# Altium schematic symbol library IC-PMIC.SchLib: 13 symbols
Pins are listed as number, name and electrical type; pins without a type are passive.

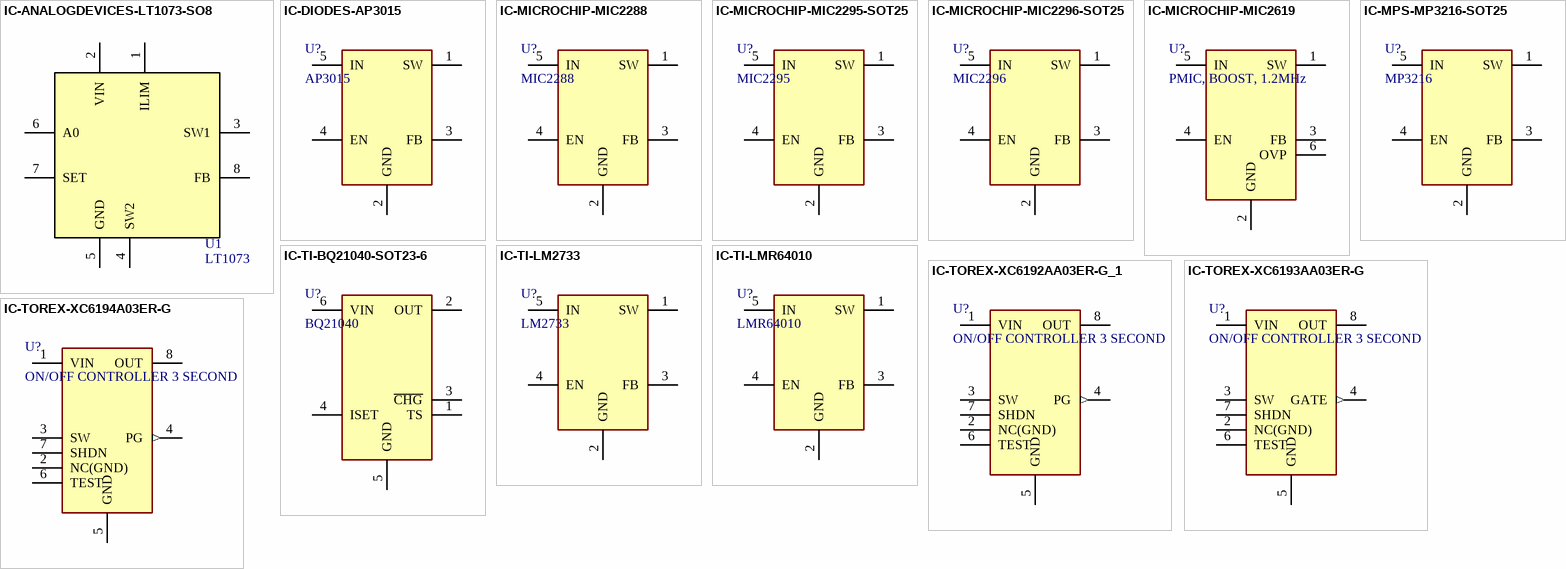
[diagram p0: symbols IC-ANALOGDEVICES-LT1073-SO8 to IC-TOREX-XC6194A03ER-G]

## IC-ANALOGDEVICES-LT1073-SO8
designator U1, comment LT1073
PMIC,SWITCHING REGULATOR,ADJUSTABLE LT1073,SO8; Supplier 1: Digikey; Supplier Part Number 1: LT1073CS8#TRPBF-ND; Supplier 2: Mouser; Supplier Part Number 2: 584-LT1073CS8#PBF
footprint SO8
pins: 1 ILIM, 2 VIN, 3 SW1, 4 SW2, 5 GND, 6 A0, 7 SET, 8 FB

## IC-DIODES-AP3015
designator U?, comment AP3015
pins: 1 SW, 2 GND, 3 FB, 4 EN, 5 IN

## IC-MICROCHIP-MIC2288
designator U?, comment MIC2288
pins: 1 SW, 2 GND, 3 FB, 4 EN, 5 IN

## IC-MICROCHIP-MIC2295-SOT25
designator U?, comment MIC2295
pins: 1 SW, 2 GND, 3 FB, 4 EN, 5 IN

## IC-MICROCHIP-MIC2296-SOT25
designator U?, comment MIC2296
pins: 1 SW, 2 GND, 3 FB, 4 EN, 5 IN

## IC-MICROCHIP-MIC2619
designator U?, comment PMIC, BOOST, 1.2MHz
pins: 1 SW, 2 GND, 3 FB, 4 EN, 5 IN, 6 OVP

## IC-MPS-MP3216-SOT25
designator U?, comment MP3216
pins: 1 SW, 2 GND, 3 FB, 4 EN, 5 IN

## IC-TI-BQ21040-SOT23-6
designator U?, comment BQ21040
PMIC,LiION CHARGER,BQ21040,SOT23-6; Supplier 1: Mouser; Supplier Part Number 1: 595-BQ21040DBVT; Supplier 2: Mouser; Supplier Part Number 2: 595-BQ21040DBVR
pins: 1 TS, 2 OUT, 3 ~{CHG}, 4 ISET, 5 GND, 6 VIN

## IC-TI-LM2733
designator U?, comment LM2733
PMIC,BOOST,LM2733,600KHz,SOT23-5; Manufacturer 1: TI; Manufacturer Part Number 1: LM2733YMFX/NOPB; Location: *; Supplier 1: Mouser; Supplier Part Number 1: 926-LM2733YMF/NOPB; Supplier 2: Mouser; Supplier Part Number 2: 926-LM2733XMF/NOPB; Supplier 3: Arrow Electronics; Supplier Part Number 3: LM2733XMF; Supplier 4: Mouser; Supplier Part Number 4: 926-LM2733XMFX/NOPB; Supplier 5: Mouser; Supplier Part Number 5: 926-LM2733YMF; Supplier 6: Bison Technologies; Supplier Part Number 6: LM2733XMFX-256963; MOUSER: 926-LM2733YMFX/NOPB
footprint SOT23-5 (SOT23 PACKAGE, 5 PIN (SOT25))
pins: 1 SW, 2 GND, 3 FB, 4 EN, 5 IN

## IC-TI-LMR64010
designator U?, comment LMR64010
pins: 1 SW, 2 GND, 3 FB, 4 EN, 5 IN

## IC-TOREX-XC6192AA03ER-G_1
designator U?, comment ON/OFF CONTROLLER 3 SECOND
pins: 1 VIN, 2 NC(GND), 3 SW, 4 PG (out), 5 GND, 6 TEST, 7 SHDN, 8 OUT

## IC-TOREX-XC6193AA03ER-G
designator U?, comment ON/OFF CONTROLLER 3 SECOND
pins: 1 VIN, 2 NC(GND), 3 SW, 4 GATE (out), 5 GND, 6 TEST, 7 SHDN, 8 OUT

## IC-TOREX-XC6194A03ER-G
designator U?, comment ON/OFF CONTROLLER 3 SECOND
pins: 1 VIN, 2 NC(GND), 3 SW, 4 PG (out), 5 GND, 6 TEST, 7 SHDN, 8 OUT